# EAGLE library part MC-802YC-H105 (library CONNECTORs)
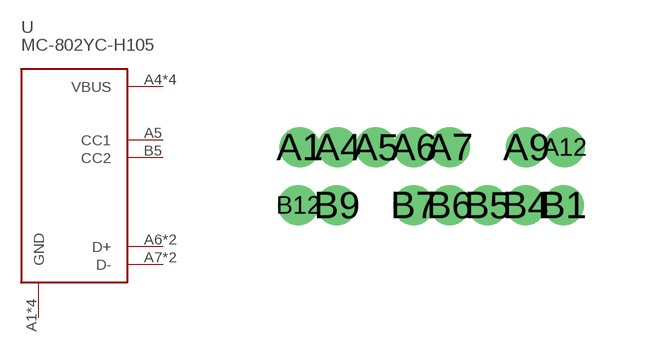
[diagram p91: symbol with the pads of MC-802YC-H105; footprint MC-802YC-H105]

Designator prefix -

## MC-802YC-H105 (LCSC: C3039301)  [MC-802YC-H105]
A1  GND
A4  VBUS
A5  CC1
A6  D+
A7  D-
A9  VBUS
A12  GND
B1  GND
B4  VBUS
B5  CC2
B6  D+
B7  D-
B9  VBUS
B12  GND

## Footprint MC-802YC-H105 (pad centres in mm)
drill 0.5: A1 -3.3,0.725; A4 -2.35,0.725; A5 -1.4,0.725; A6 -0.45,0.725; A7 0.45,0.725; A9 2.37,0.725; A12 3.33,0.725; B1 3.3,-0.725; B4 2.35,-0.725; B5 1.4,-0.725; B6 0.45,-0.725; B7 -0.45,-0.725; B9 -2.37,-0.725; B12 -3.33,-0.725